# EAGLE library part MFRC522 (library FansElectronics-Modul)
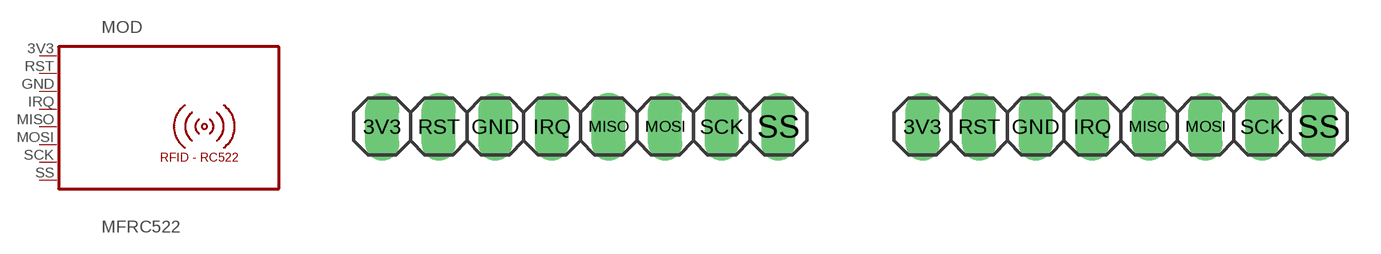
[diagram p11: symbol with the pads of MFRC522; footprints MFRC522, MFRC522V]

Designator prefix MOD

## MFRC522-H  [MFRC522]
3V3  1  pas
GND  3  pas
IRQ  4  pas
MISO  5  pas
MOSI  6  pas
RST  2  pas
SCK  7  pas
SS  8  pas

## MFRC522-V  [MFRC522V]
Pads as for MFRC522

## Footprint MFRC522 (pad centres in mm)
drill 1.016 long: 3V3 -8.89,0; GND -3.81,0; IRQ -1.27,0; MISO 1.27,0; MOSI 3.81,0; RST -6.35,0; SCK 6.35,0; SS 8.89,0

## Footprint MFRC522V (pad centres in mm)
drill 1.016 long: 3V3 -8.89,0; GND -3.81,0; IRQ -1.27,0; MISO 1.27,0; MOSI 3.81,0; RST -6.35,0; SCK 6.35,0; SS 8.89,0